# EAGLE library part TUHS10 (library tuhs10)
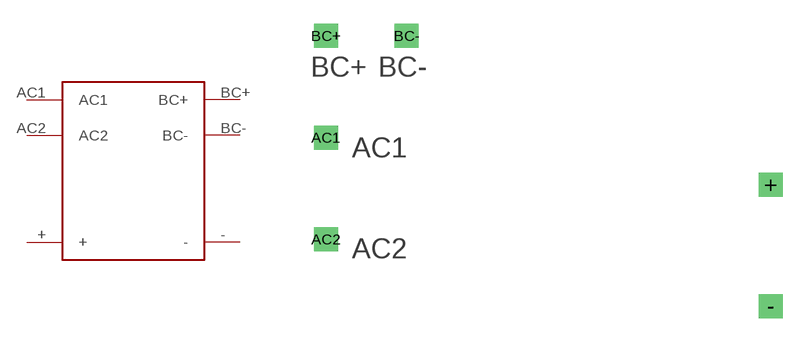
[diagram p0: symbol with the pads of TUHS10; footprint TUHS10]

Designator prefix -

## TUHS10  [TUHS10]
+  +
-  -
AC1  AC1
AC2  AC2
BC+  BC+
BC-  BC-

## Footprint TUHS10 (pad centres in mm)
drill 1 square: + 30.5,9.71; - 30.5,2.09; AC1 2.5,12.69; AC2 2.5,6.29; BC+ 2.5,19.09; BC- 7.58,19.09